# Altium footprint library c&k-slide.PcbLib: 6 footprints
Each footprint in its own frame and in the unit in brackets; x right, y up, seen from the top. Pads: shape width x height; smd on the part's side, far side on the other; paste and mask are expansions set on the pad; w line width, h text height; cw(c..) or ccw(c..) is an arc to the next point about the centre after c.
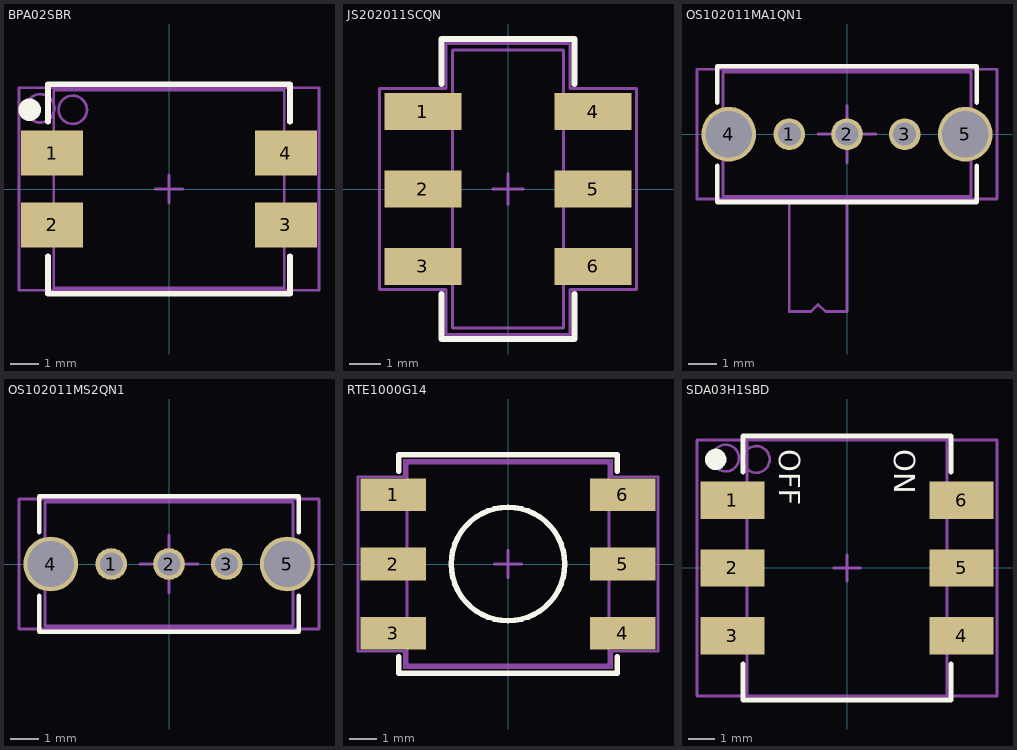
[diagram p0: the footprints below, top view; thin cyan lines are the x and y axes]

## BPA02SBR [mm] "Dip Switch Side Actuator - SMT"
height 6.85
pads (4):
  rect 2.2x1.6 smd: 1(-4.13,1.27) 2(-4.13,-1.27) 3(4.13,-1.27) 4(4.13,1.27)
Top Overlay:
  circle w0.4: c-4.925,2.8 r0.2
  lines w0.2: -4.275,-2.375 -4.275,-3.7 4.275,-3.7 4.275,-2.375 ; -4.275,2.375 -4.275,3.7 4.275,3.7 4.275,2.375
Mechanical 13:
  circle w0.1: c-3.4,2.8 r0.5
  lines w0.1: -0.5,0 0.5,0 ; 0,-0.5 0,0.5 ; -4.075,-3.5 4.075,-3.5 4.075,3.5 -4.075,3.5 -4.075,-3.5
Mechanical 15:
  circle w0.1: c-4.55,2.85 r0.5
  lines w0.1: -5.3,-3.575 -5.3,3.575 5.3,3.575 5.3,-3.575 -5.3,-3.575
  text ".Designator" at -0.1,1.74 h0.5
3D body: height 6.25, standoff 5.25, extent -6.175,-1.97 -4.075,-0.57
3D body: height 6.25, standoff 5.25, extent -6.175,0.57 -4.075,1.97
3D body: height 6.85, standoff 0.85, extent -4.075,-3.5 4.075,3.5

## JS202011SCQN [mm] "DP2T - Sub-Moniature Slide Switch"
height 5.5
pads (6):
  rect 2.5x1.2 smd: 1(-2.75,2.5) 2(-2.75,0) 3(-2.75,-2.5) 4(2.75,2.5) 5(2.75,0) 6(2.75,-2.5)
Top Overlay:
  lines w0.2: -2.15,-3.4 -2.15,-4.85 2.15,-4.85 2.15,-3.4 ; -2.15,3.4 -2.15,4.85 2.15,4.85 2.15,3.4
Mechanical 13:
  lines w0.1: -0.5,0 0.5,0 ; 0,-0.5 0,0.5 ; -1.8,-4.5 1.8,-4.5 1.8,4.5 -1.8,4.5 -1.8,-4.5
Mechanical 15:
  lines w0.1: -4.15,-3.25 -4.15,3.25 -2,3.25 -2,4.7 2,4.7 2,3.25 4.15,3.25 4.15,-3.25 2,-3.25 2,-4.7 -2,-4.7 -2,-3.25 -4.15,-3.25
  text ".Designator" at -0.1,1.74 h0.5
3D body: height 3.5, standoff 0, extent -1.8,-4.5 1.8,4.5
3D body: height 5.5, standoff 3.5, extent -0.75,-2.5 0.75,-1

## OS102011MA1QN1 [mm] "Miniature Slide Switch - 8.6mmX4.4mm, Right Angle"
height 4.7
pads (5):
  round 1.1 hole 0.8: 1(-2,0) 2(0,0) 3(2,0)
  round 1.9 hole 1.6: 4(-4.1,0) 5(4.1,0)
Top Overlay:
  lines w0.16: -4.5,-1.1 -4.5,-2.35 4.5,-2.35 4.5,-1.1 ; -4.5,1.1 -4.5,2.35 4.5,2.35 4.5,1.1
Mechanical 13:
  lines w0.1: -2,-2.2 -2,-6.15 -1.25,-6.15 -1,-5.9 -0.75,-6.15 0,-6.15 0,-2.2 ; -1,0 1,0 ; 0,-1 0,1 ; -4.3,-2.15 -4.3,2.15 4.3,2.15 4.3,-2.15 -4.3,-2.15
Mechanical 15:
  lines w0.1: -5.2,-2.25 5.2,-2.25 5.2,2.25 -5.2,2.25 -5.2,-2.25
  text ".Designator" at -2.45,0.05 h0.5
3D body: height 4.7, standoff -2.8, extent -4.3,-6.225 4.3,2.175

## OS102011MS2QN1 [mm] "Miniature Slide Switch - 8.6mmX4.4mm, Vertical"
height 4.7
pads (5):
  round 1.1 hole 0.8: 1(-2,0) 2(0,0) 3(2,0)
  round 1.9 hole 1.6: 4(-4.1,0) 5(4.1,0)
Top Overlay:
  lines w0.16: -4.5,-1.1 -4.5,-2.35 4.5,-2.35 4.5,-1.1 ; -4.5,1.1 -4.5,2.35 4.5,2.35 4.5,1.1
Mechanical 13:
  lines w0.1: -1,0 1,0 ; 0,-1 0,1 ; -4.3,-2.15 4.3,-2.15 4.3,2.15 -4.3,2.15 -4.3,-2.15
Mechanical 15:
  lines w0.1: -5.2,-2.25 -5.2,2.25 5.2,2.25 5.2,-2.25 -5.2,-2.25
  text ".Designator" at -2.45,0.05 h0.5
3D body: height 8.7, standoff -2.8, extent -4.3,-2.15 4.3,2.15

## RTE1000G14 [mm] "Low profile rotary DIP switch 10 pos. BCD code SMD"
height 5.5
pads (6):
  rect 2.4x1.2 smd: 1(-4.2,2.54) 2(-4.2,0) 3(-4.2,-2.54) 4(4.2,-2.54) 5(4.2,0) 6(4.2,2.54)
Top Overlay:
  circle w0.2: c0,0 r2.081
  lines w0.2: -4,-3.4 -4,-4 4,-4 4,-3.4 ; -4,3.4 -4,4 4,4 4,3.4
Mechanical 13:
  lines w0.1: -0.5,0 0.5,0 ; 0,-0.5 0,0.5 ; -3.7,-3.7 3.7,-3.7 3.7,3.7 -3.7,3.7 -3.7,-3.7
Mechanical 15:
  lines w0.1: -5.5,-3.2 -5.5,3.2 -3.8,3.2 -3.8,3.8 3.8,3.8 3.8,3.2 5.5,3.2 5.5,-3.2 3.8,-3.2 3.8,-3.8 -3.8,-3.8 -3.8,-3.2 -5.5,-3.2
  text ".Designator" at -0.1,1.74 h0.5
3D body: height 4.25, standoff 0, extent -5,-3.7 5,3.7

## SDA03H1SBD [mm] "Dip Switch Top Actuator - SMT"
height 6.85
pads (6):
  rect 2.4x1.4 smd: 1(-4.3,2.54) 2(-4.3,0) 3(-4.3,-2.54) 4(4.3,-2.54) 5(4.3,0) 6(4.3,2.54)
Top Overlay:
  circle w0.4: c-4.925,4.07 r0.2
  lines w0.2: -3.9,-3.6 -3.9,-4.95 3.9,-4.95 3.9,-3.6 ; -3.9,3.6 -3.9,4.95 3.9,4.95 3.9,3.6
  text "OFF" at -2.54,4.445 h0.8
  text "ON" at 1.778,4.445 h0.8
Mechanical 13:
  circle w0.1: c-3.4,4.07 r0.5
  lines w0.1: -0.5,0 0.5,0 ; 0,-0.5 0,0.5 ; -3.75,-4.8 -3.75,4.8 3.75,4.8 3.75,-4.8 -3.75,-4.8
Mechanical 15:
  circle w0.1: c-4.55,4.12 r0.5
  lines w0.1: -5.625,-4.8 -5.625,4.8 5.625,4.8 5.625,-4.8 -5.625,-4.8
  text ".Designator" at -0.1,3.01 h0.5
3D body: height 5.45, standoff 4.45, extent -1.285,1.89 0.015,3.19
3D body: height 4.45, standoff 0.95, extent -3.75,-4.77 3.75,4.8
3D body: height 5.45, standoff 4.45, extent -1.285,-0.65 0.015,0.65
3D body: height 5.45, standoff 4.45, extent -1.285,-3.19 0.015,-1.89